# EAGLE library part RELAY-SPDT (library Tinkercad)
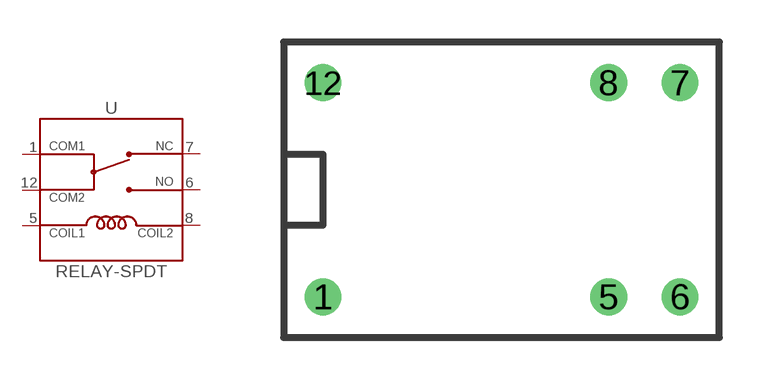
[diagram p37: symbol with the pads of LU-5-R; footprint LU-5-R]

Designator prefix -

## RELAY-SPDT_LU-5-R  [LU-5-R]
1  COM1
5  COIL1
6  NO
7  NC
8  COIL2
12  COM2

## Footprint LU-5-R (pad centres in mm)
drill 0.8: 1 -6.35,-3.81; 5 3.81,-3.81; 6 6.35,-3.81; 7 6.35,3.81; 8 3.81,3.81; 12 -6.35,3.81